# Altium footprint library TLV320AIC3254.PcbLib: 1 footprints
Each footprint in its own frame and in the unit in brackets; x right, y up, seen from the top. Pads: shape width x height; smd on the part's side, far side on the other; paste and mask are expansions set on the pad; w line width, h text height; cw(c..) or ccw(c..) is an arc to the next point about the centre after c.
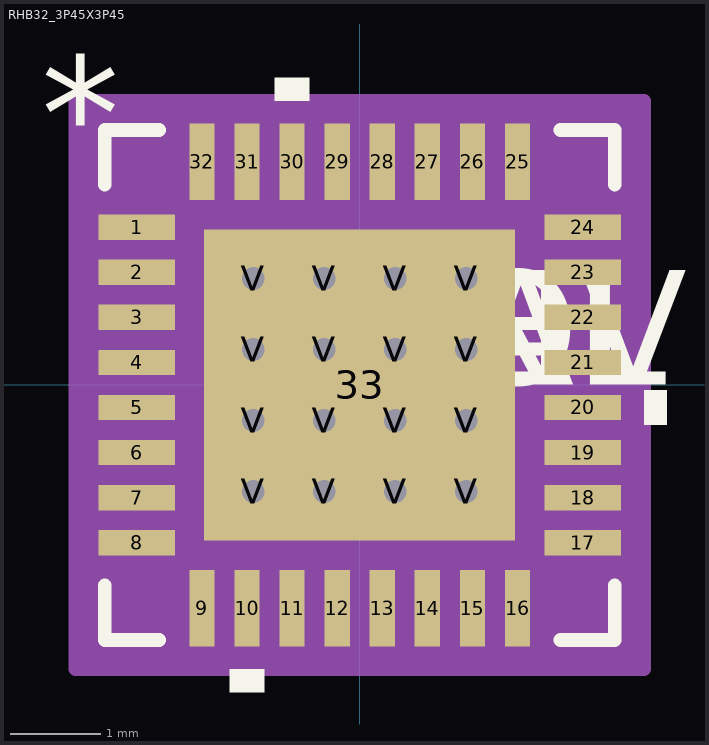
[diagram p0: the footprint, top view; thin cyan lines are the x and y axes]

## RHB32_3P45X3P45 [mm]
pads (49):
  rect 0.85x0.28 smd paste-0.412: 1(-2.475,1.75) 2(-2.475,1.25) 3(-2.475,0.75) 4(-2.475,0.25) 5(-2.475,-0.25) 6(-2.475,-0.75) 7(-2.475,-1.25) 8(-2.475,-1.75) 17(2.475,-1.75) 18(2.475,-1.25) 19(2.475,-0.75) 20(2.475,-0.25) 21(2.475,0.25) 22(2.475,0.75) 23(2.475,1.25) 24(2.475,1.75)
  rect 0.28x0.85 smd paste-0.412: 9(-1.75,-2.475) 10(-1.25,-2.475) 11(-0.75,-2.475) 12(-0.25,-2.475) 13(0.25,-2.475) 14(0.75,-2.475) 15(1.25,-2.475) 16(1.75,-2.475) 25(1.75,2.475) 26(1.25,2.475) 27(0.75,2.475) 28(0.25,2.475) 29(-0.25,2.475) 30(-0.75,2.475) 31(-1.25,2.475) 32(-1.75,2.475)
  rect 3.45x3.45 smd paste-1.712 mask-1.714: 33(0,0)
  round 0.508 / inner round 1.524 / far side round 0.508 hole 0.254: V(-1.181,-1.181) V(-1.181,-0.394) V(-1.181,0.394) V(-1.181,1.181) V(-0.394,-1.181) V(-0.394,-0.394) V(-0.394,0.394) V(-0.394,1.181) V(0.394,-1.181) V(0.394,-0.394) V(0.394,0.394) V(0.394,1.181) V(1.181,-1.181) V(1.181,-0.394) V(1.181,0.394) V(1.181,1.181)
Top Overlay:
  region: -1.06,-3.154 -1.441,-3.154 -1.441,-3.408 -1.06,-3.408
  region: 3.154,-0.059 3.408,-0.059 3.408,-0.44 3.154,-0.44
  region: -0.56,3.154 -0.941,3.154 -0.941,3.408 -0.56,3.408
  lines w0.152: -2.829,-2.223 -2.829,-2.829 -2.223,-2.829 ; -2.829,2.223 -2.829,2.829 -2.223,2.829 ; 2.223,-2.829 2.829,-2.829 2.829,-2.223 ; 2.223,2.829 2.829,2.829 2.829,2.223
  text "*" at -3.535,2.381 h1.27
  text "PN" at 0,0 h1.27
  text "DEV" at 0,0 h1.27
  text "VAL" at 0,0 h1.27
  text "TOL" at 0,0 h1.27
Top Paste:
  drawing of 57 lines, arcs and shapes, not listed
Top Solder:
  drawing of 42 lines, arcs and shapes, not listed
Mechanical 13:
  text "*" at -3.535,2.381 h1.27
  text "RefDes2" at 0,0 h1.27
Mechanical 15:
  region: 3.154,-3.154 -3.154,-3.154 -3.154,3.154 3.154,3.154
  lines w0.152: -3.154,-3.154 -3.154,3.154 3.154,3.154 3.154,-3.154 -3.154,-3.154
3D body "RHB32_3P45X3P45.stp": height 1.4, standoff 0, extent -2.626,-2.626 2.626,2.626